# Altium schematic symbol library Male Header.SchLib: 63 symbols
Pins are listed as number, name and electrical type; pins without a type are passive.

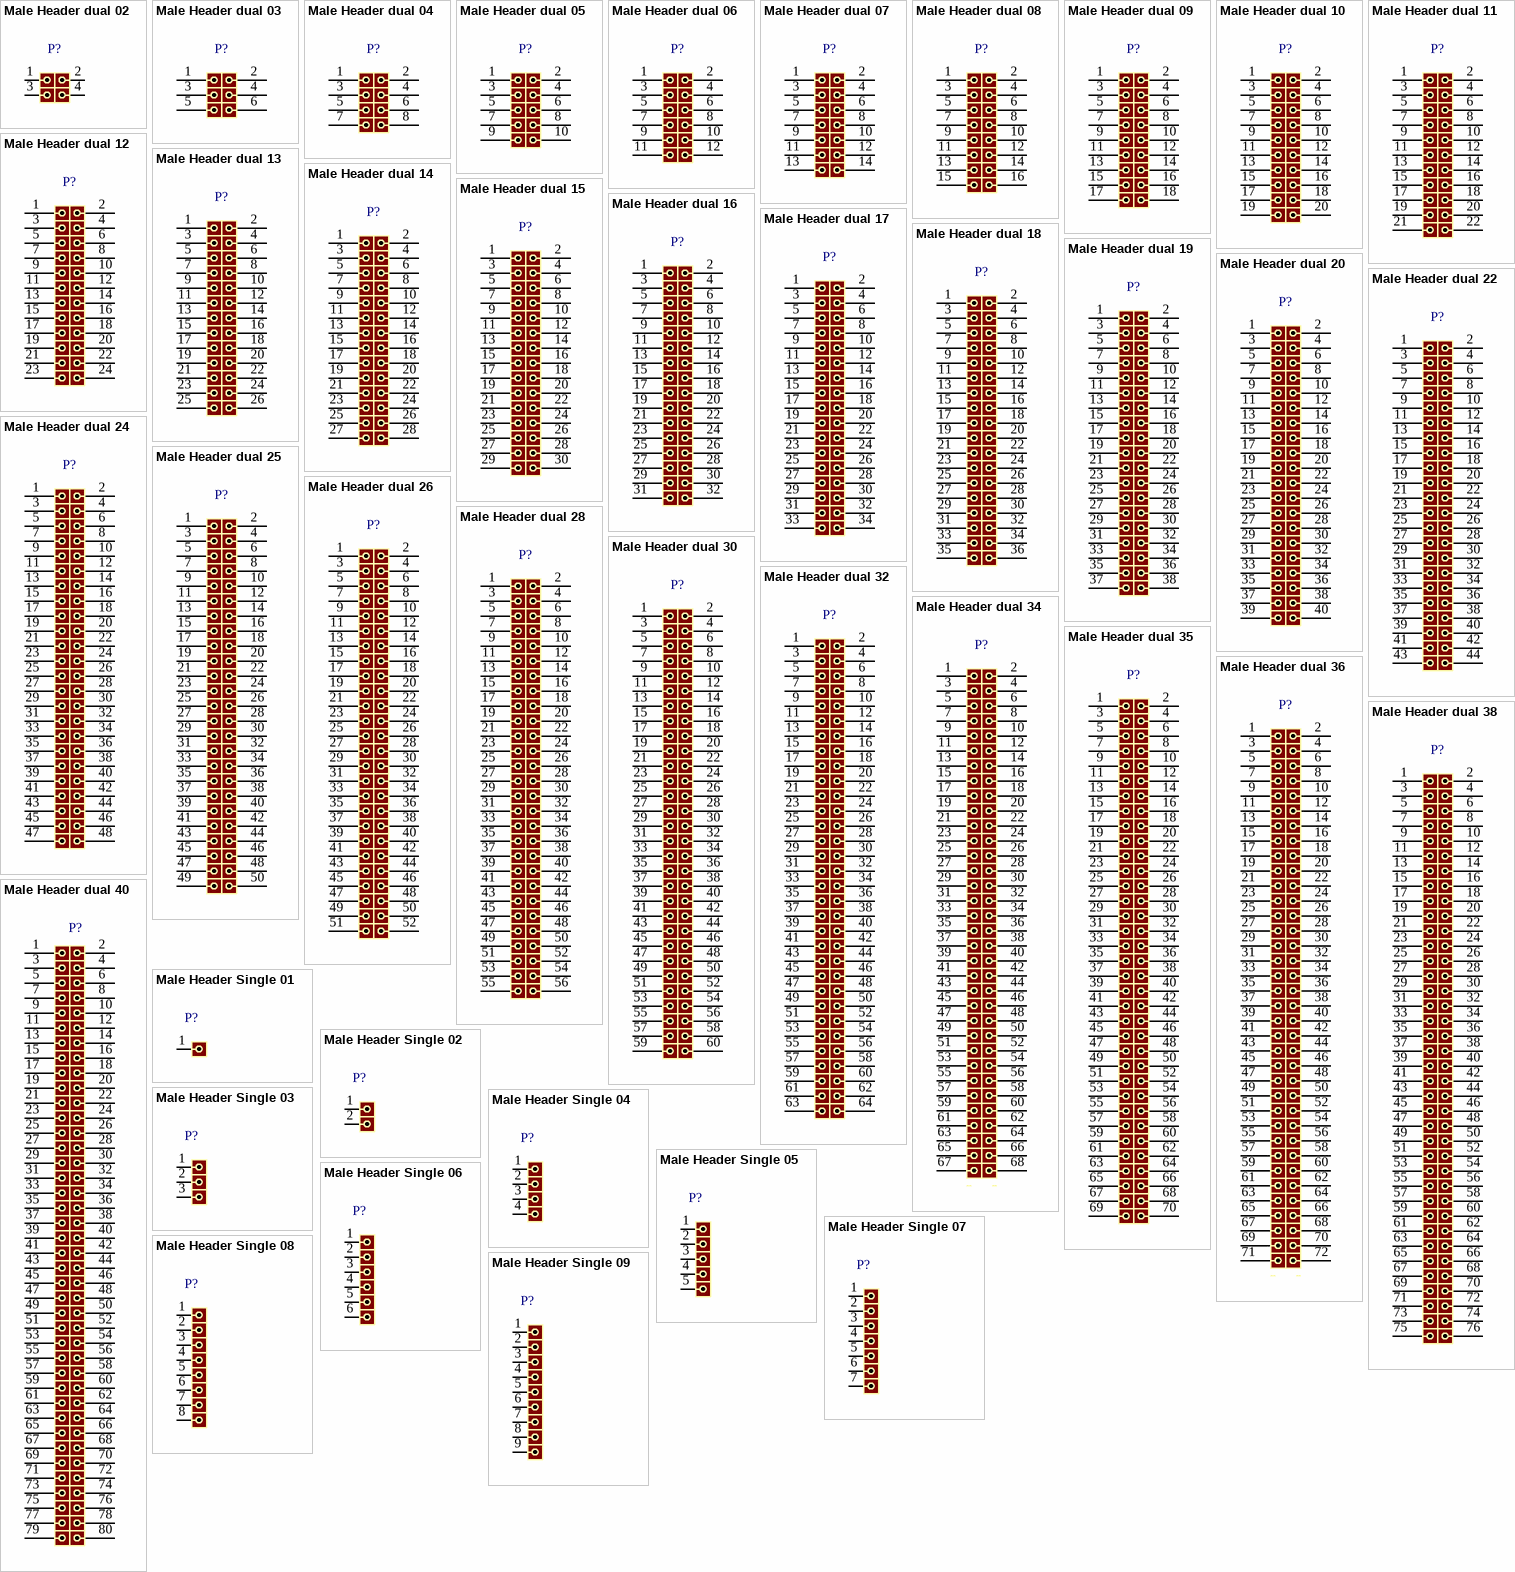
[diagram p0: symbols Male Header dual 02 to Male Header Single 09]

## Male Header dual 02
designator P?
Male, pitch: 2.54mm; DatasheetVersion: 2022
pins: 1, 2, 3, 4
1 alternate drawing of the same symbol

## Male Header dual 03
designator P?
Male, pitch: 2.54mm; DatasheetVersion: 2022
pins: 1, 2, 3, 4, 5, 6
1 alternate drawing of the same symbol

## Male Header dual 04
designator P?
Male, pitch: 2.54mm; DatasheetVersion: 2022
pins: 1, 2, 3, 4, 5, 6, 7, 8
1 alternate drawing of the same symbol

## Male Header dual 05
designator P?
Male, pitch: 2.54mm; DatasheetVersion: 2022
pins: 1, 2, 3, 4, 5, 6, 7, 8, 9, 10
1 alternate drawing of the same symbol

## Male Header dual 06
designator P?
Male, pitch: 2.54mm; DatasheetVersion: 2022
pins: 1, 2, 3, 4, 5, 6, 7, 8, 9, 10, 11, 12
1 alternate drawing of the same symbol

## Male Header dual 07
designator P?
Male, pitch: 2.54mm; DatasheetVersion: 2022
pins: 1, 2, 3, 4, 5, 6, 7, 8, 9, 10, 11, 12, 13, 14
1 alternate drawing of the same symbol

## Male Header dual 08
designator P?
Male, pitch: 2.54mm; DatasheetVersion: 2022
pins: 1, 2, 3, 4, 5, 6, 7, 8, 9, 10, 11, 12, 13, 14, 15, 16
1 alternate drawing of the same symbol

## Male Header dual 09
designator P?
Male, pitch: 2.54mm; DatasheetVersion: 2022
pins: 1, 2, 3, 4, 5, 6, 7, 8, 9, 10, 11, 12, 13, 14, 15, 16, 17, 18
1 alternate drawing of the same symbol

## Male Header dual 10
designator P?
Male, pitch: 2.54mm; DatasheetVersion: 2022
pins: 1, 2, 3, 4, 5, 6, 7, 8, 9, 10, 11, 12, 13, 14, 15, 16, 17, 18, 19, 20
1 alternate drawing of the same symbol

## Male Header dual 11
designator P?
Male, pitch: 2.54mm; DatasheetVersion: 2022
pins: 1, 2, 3, 4, 5, 6, 7, 8, 9, 10, 11, 12, 13, 14, 15, 16, 17, 18, 19, 20, 21, 22
1 alternate drawing of the same symbol

## Male Header dual 12
designator P?
Male, pitch: 2.54mm; DatasheetVersion: 2022
pins: 1, 2, 3, 4, 5, 6, 7, 8, 9, 10, 11, 12, 13, 14, 15, 16, 17, 18, 19, 20, 21, 22, 23, 24
1 alternate drawing of the same symbol

## Male Header dual 13
designator P?
Male, pitch: 2.54mm; DatasheetVersion: 2022
pins: 1, 2, 3, 4, 5, 6, 7, 8, 9, 10, 11, 12, 13, 14, 15, 16, 17, 18, 19, 20, 21, 22, 23, 24, 25, 26
1 alternate drawing of the same symbol

## Male Header dual 14
designator P?
Male, pitch: 2.54mm; DatasheetVersion: 2022
pins: 1, 2, 3, 4, 5, 6, 7, 8, 9, 10, 11, 12, 13, 14, 15, 16, 17, 18, 19, 20, 21, 22, 23, 24, 25, 26, 27, 28
1 alternate drawing of the same symbol

## Male Header dual 15
designator P?
Male, pitch: 2.54mm; DatasheetVersion: 2022
pins: 1, 2, 3, 4, 5, 6, 7, 8, 9, 10, 11, 12, 13, 14, 15, 16, 17, 18, 19, 20, 21, 22, 23, 24, 25, 26, 27, 28, 29, 30
1 alternate drawing of the same symbol

## Male Header dual 16
designator P?
Male, pitch: 2.54mm; DatasheetVersion: 2022
pins: 1, 2, 3, 4, 5, 6, 7, 8, 9, 10, 11, 12, 13, 14, 15, 16, 17, 18, 19, 20, 21, 22, 23, 24, 25, 26, 27, 28, 29, 30, 31, 32
1 alternate drawing of the same symbol

## Male Header dual 17
designator P?
Male, pitch: 2.54mm; DatasheetVersion: 2022
pins: 1, 2, 3, 4, 5, 6, 7, 8, 9, 10, 11, 12, 13, 14, 15, 16, 17, 18, 19, 20, 21, 22, 23, 24, 25, 26, 27, 28, 29, 30, 31, 32, 33, 34
1 alternate drawing of the same symbol

## Male Header dual 18
designator P?
Male, pitch: 2.54mm; DatasheetVersion: 2022
pins: 1, 2, 3, 4, 5, 6, 7, 8, 9, 10, 11, 12, 13, 14, 15, 16, 17, 18, 19, 20, 21, 22, 23, 24, 25, 26, 27, 28, 29, 30, 31, 32, 33, 34, 35, 36
1 alternate drawing of the same symbol

## Male Header dual 19
designator P?
Male, pitch: 2.54mm; DatasheetVersion: 2022
pins: 1, 2, 3, 4, 5, 6, 7, 8, 9, 10, 11, 12, 13, 14, 15, 16, 17, 18, 19, 20, 21, 22, 23, 24, 25, 26, 27, 28, 29, 30, 31, 32, 33, 34, 35, 36, 37, 38
1 alternate drawing of the same symbol

## Male Header dual 20
designator P?
Male, pitch: 2.54mm; DatasheetVersion: 2022
pins: 1, 2, 3, 4, 5, 6, 7, 8, 9, 10, 11, 12, 13, 14, 15, 16, 17, 18, 19, 20, 21, 22, 23, 24, 25, 26, 27, 28, 29, 30, 31, 32, 33, 34, 35, 36, 37, 38, 39, 40
1 alternate drawing of the same symbol

## Male Header dual 22
designator P?
Male, pitch: 2.54mm; DatasheetVersion: 2022
pins: 1, 2, 3, 4, 5, 6, 7, 8, 9, 10, 11, 12, 13, 14, 15, 16, 17, 18, 19, 20, 21, 22, 23, 24, 25, 26, 27, 28, 29, 30, 31, 32, 33, 34, 35, 36, 37, 38, 39, 40, 41, 42, 43, 44
1 alternate drawing of the same symbol

## Male Header dual 24
designator P?
Male, pitch: 2.54mm; DatasheetVersion: 2022
pins: 1, 2, 3, 4, 5, 6, 7, 8, 9, 10, 11, 12, 13, 14, 15, 16, 17, 18, 19, 20, 21, 22, 23, 24, 25, 26, 27, 28, 29, 30, 31, 32, 33, 34, 35, 36, 37, 38, 39, 40, 41, 42, 43, 44, 45, 46, 47, 48
1 alternate drawing of the same symbol

## Male Header dual 25
designator P?
Male, pitch: 2.54mm; DatasheetVersion: 2022
pins: 1, 2, 3, 4, 5, 6, 7, 8, 9, 10, 11, 12, 13, 14, 15, 16, 17, 18, 19, 20, 21, 22, 23, 24, 25, 26, 27, 28, 29, 30, 31, 32, 33, 34, 35, 36, 37, 38, 39, 40, 41, 42, 43, 44, 45, 46, 47, 48, 49, 50
1 alternate drawing of the same symbol

## Male Header dual 26
designator P?
Male, pitch: 2.54mm; DatasheetVersion: 2022
pins: 1, 2, 3, 4, 5, 6, 7, 8, 9, 10, 11, 12, 13, 14, 15, 16, 17, 18, 19, 20, 21, 22, 23, 24, 25, 26, 27, 28, 29, 30, 31, 32, 33, 34, 35, 36, 37, 38, 39, 40, 41, 42, 43, 44, 45, 46, 47, 48, 49, 50, 51, 52
1 alternate drawing of the same symbol

## Male Header dual 28
designator P?
Male, pitch: 2.54mm; DatasheetVersion: 2022
pins: 1, 2, 3, 4, 5, 6, 7, 8, 9, 10, 11, 12, 13, 14, 15, 16, 17, 18, 19, 20, 21, 22, 23, 24, 25, 26, 27, 28, 29, 30, 31, 32, 33, 34, 35, 36, 37, 38, 39, 40, 41, 42, 43, 44, 45, 46, 47, 48, 49, 50, 51, 52, 53, 54, 55, 56
1 alternate drawing of the same symbol

## Male Header dual 30
designator P?
Male, pitch: 2.54mm; DatasheetVersion: 2022
pins: 1, 2, 3, 4, 5, 6, 7, 8, 9, 10, 11, 12, 13, 14, 15, 16, 17, 18, 19, 20, 21, 22, 23, 24, 25, 26, 27, 28, 29, 30, 31, 32, 33, 34, 35, 36, 37, 38, 39, 40, 41, 42, 43, 44, 45, 46, 47, 48, 49, 50, 51, 52, 53, 54, 55, 56, 57, 58, 59, 60
1 alternate drawing of the same symbol

## Male Header dual 32
designator P?
Male, pitch: 2.54mm; DatasheetVersion: 2022
pins: 1, 2, 3, 4, 5, 6, 7, 8, 9, 10, 11, 12, 13, 14, 15, 16, 17, 18, 19, 20, 21, 22, 23, 24, 25, 26, 27, 28, 29, 30, 31, 32, 33, 34, 35, 36, 37, 38, 39, 40, 41, 42, 43, 44, 45, 46, 47, 48, 49, 50, 51, 52, 53, 54, 55, 56, 57, 58, 59, 60, 61, 62, 63, 64
1 alternate drawing of the same symbol

## Male Header dual 34
designator P?
Male, pitch: 2.54mm; DatasheetVersion: 2022
pins: 1, 2, 3, 4, 5, 6, 7, 8, 9, 10, 11, 12, 13, 14, 15, 16, 17, 18, 19, 20, 21, 22, 23, 24, 25, 26, 27, 28, 29, 30, 31, 32, 33, 34, 35, 36, 37, 38, 39, 40, 41, 42, 43, 44, 45, 46, 47, 48, 49, 50, 51, 52, 53, 54, 55, 56, 57, 58, 59, 60, 61, 62, 63, 64, 65, 66, 67, 68
1 alternate drawing of the same symbol

## Male Header dual 35
designator P?
Male, pitch: 2.54mm; DatasheetVersion: 2022
pins: 1, 2, 3, 4, 5, 6, 7, 8, 9, 10, 11, 12, 13, 14, 15, 16, 17, 18, 19, 20, 21, 22, 23, 24, 25, 26, 27, 28, 29, 30, 31, 32, 33, 34, 35, 36, 37, 38, 39, 40, 41, 42, 43, 44, 45, 46, 47, 48, 49, 50, 51, 52, 53, 54, 55, 56, 57, 58, 59, 60, 61, 62, 63, 64, 65, 66, 67, 68, 69, 70
1 alternate drawing of the same symbol

## Male Header dual 36
designator P?
Male, pitch: 2.54mm; DatasheetVersion: 2022
pins: 1, 2, 3, 4, 5, 6, 7, 8, 9, 10, 11, 12, 13, 14, 15, 16, 17, 18, 19, 20, 21, 22, 23, 24, 25, 26, 27, 28, 29, 30, 31, 32, 33, 34, 35, 36, 37, 38, 39, 40, 41, 42, 43, 44, 45, 46, 47, 48, 49, 50, 51, 52, 53, 54, 55, 56, 57, 58, 59, 60, 61, 62, 63, 64, 65, 66, 67, 68, 69, 70, 71, 72
1 alternate drawing of the same symbol

## Male Header dual 38
designator P?
Male, pitch: 2.54mm; DatasheetVersion: 2022
pins: 1, 2, 3, 4, 5, 6, 7, 8, 9, 10, 11, 12, 13, 14, 15, 16, 17, 18, 19, 20, 21, 22, 23, 24, 25, 26, 27, 28, 29, 30, 31, 32, 33, 34, 35, 36, 37, 38, 39, 40, 41, 42, 43, 44, 45, 46, 47, 48, 49, 50, 51, 52, 53, 54, 55, 56, 57, 58, 59, 60, 61, 62, 63, 64, 65, 66, 67, 68, 69, 70, 71, 72, 73, 74, 75, 76
1 alternate drawing of the same symbol

## Male Header dual 40
designator P?
Male, pitch: 2.54mm; DatasheetVersion: 2022
pins: 1, 2, 3, 4, 5, 6, 7, 8, 9, 10, 11, 12, 13, 14, 15, 16, 17, 18, 19, 20, 21, 22, 23, 24, 25, 26, 27, 28, 29, 30, 31, 32, 33, 34, 35, 36, 37, 38, 39, 40, 41, 42, 43, 44, 45, 46, 47, 48, 49, 50, 51, 52, 53, 54, 55, 56, 57, 58, 59, 60, 61, 62, 63, 64, 65, 66, 67, 68, 69, 70, 71, 72, 73, 74, 75, 76, 77, 78, 79, 80
1 alternate drawing of the same symbol

## Male Header Single 01
designator P?
Male, pitch: 2.54mm; DatasheetVersion: 2022
pins: 1
1 alternate drawing of the same symbol

## Male Header Single 02
designator P?
Male, pitch: 2.54mm; DatasheetVersion: 2022
pins: 1, 2
1 alternate drawing of the same symbol

## Male Header Single 03
designator P?
Male, pitch: 2.54mm; DatasheetVersion: 2022
pins: 1, 2, 3
1 alternate drawing of the same symbol

## Male Header Single 04
designator P?
Male, pitch: 2.54mm; DatasheetVersion: 2022
pins: 1, 2, 3, 4
1 alternate drawing of the same symbol

## Male Header Single 05
designator P?
Male, pitch: 2.54mm; DatasheetVersion: 2022
pins: 1, 2, 3, 4, 5
1 alternate drawing of the same symbol

## Male Header Single 06
designator P?
Male, pitch: 2.54mm; DatasheetVersion: 2022
pins: 1, 2, 3, 4, 5, 6
1 alternate drawing of the same symbol

## Male Header Single 07
designator P?
Male, pitch: 2.54mm; DatasheetVersion: 2022
pins: 1, 2, 3, 4, 5, 6, 7
1 alternate drawing of the same symbol

## Male Header Single 08
designator P?
Male, pitch: 2.54mm; DatasheetVersion: 2022
pins: 1, 2, 3, 4, 5, 6, 7, 8
1 alternate drawing of the same symbol

## Male Header Single 09
designator P?
Male, pitch: 2.54mm; DatasheetVersion: 2022
pins: 1, 2, 3, 4, 5, 6, 7, 8, 9
1 alternate drawing of the same symbol

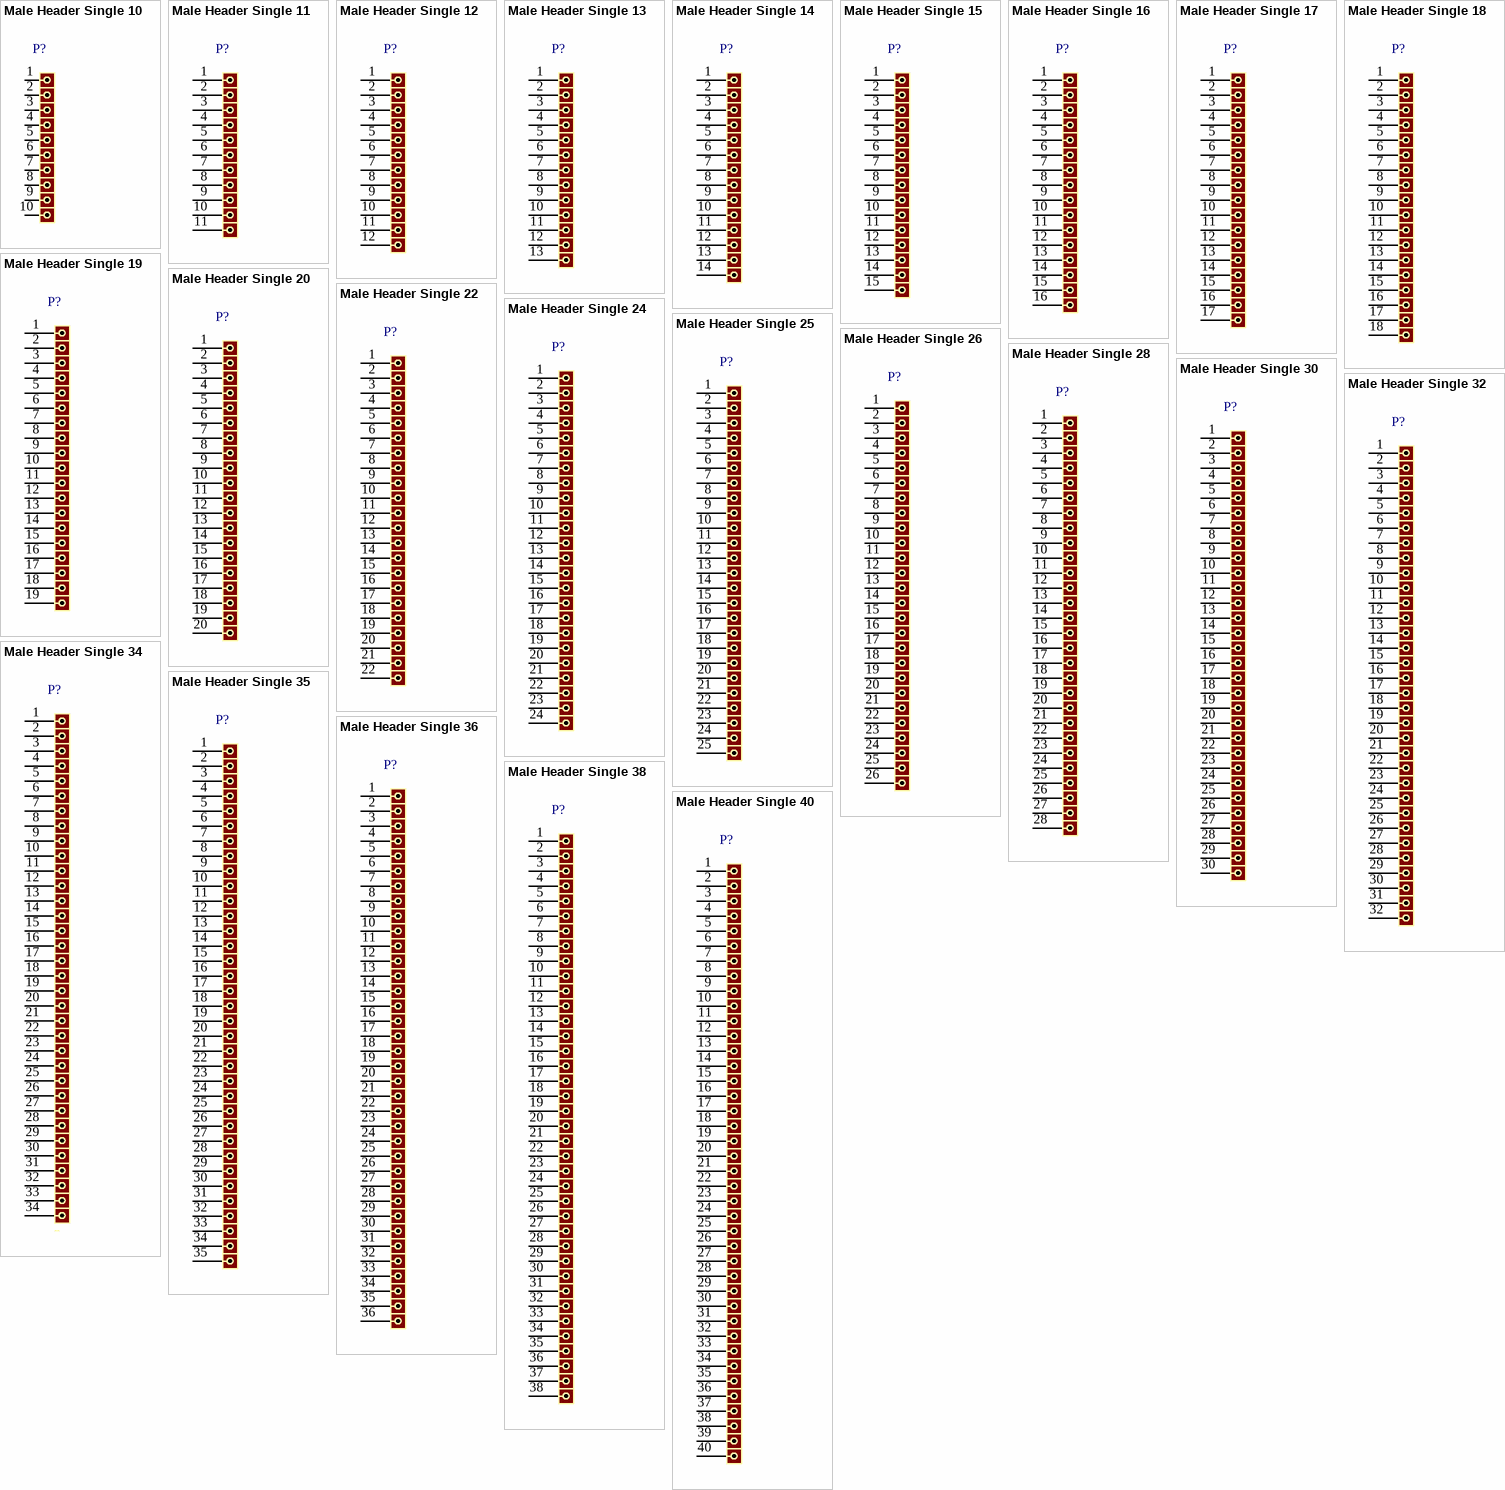
[diagram p1: symbols Male Header Single 10 to Male Header Single 40]

## Male Header Single 10
designator P?
Male, pitch: 2.54mm; DatasheetVersion: 2022
pins: 1, 2, 3, 4, 5, 6, 7, 8, 9, 10
1 alternate drawing of the same symbol

## Male Header Single 11
designator P?
Male, pitch: 2.54mm; DatasheetVersion: 2022
pins: 1, 2, 3, 4, 5, 6, 7, 8, 9, 10, 11
1 alternate drawing of the same symbol

## Male Header Single 12
designator P?
Male, pitch: 2.54mm; DatasheetVersion: 2022
pins: 1, 2, 3, 4, 5, 6, 7, 8, 9, 10, 11, 12
1 alternate drawing of the same symbol

## Male Header Single 13
designator P?
Male, pitch: 2.54mm; DatasheetVersion: 2022
pins: 1, 2, 3, 4, 5, 6, 7, 8, 9, 10, 11, 12, 13
1 alternate drawing of the same symbol

## Male Header Single 14
designator P?
Male, pitch: 2.54mm; DatasheetVersion: 2022
pins: 1, 2, 3, 4, 5, 6, 7, 8, 9, 10, 11, 12, 13, 14
1 alternate drawing of the same symbol

## Male Header Single 15
designator P?
Male, pitch: 2.54mm; DatasheetVersion: 2022
pins: 1, 2, 3, 4, 5, 6, 7, 8, 9, 10, 11, 12, 13, 14, 15
1 alternate drawing of the same symbol

## Male Header Single 16
designator P?
Male, pitch: 2.54mm; DatasheetVersion: 2022
pins: 1, 2, 3, 4, 5, 6, 7, 8, 9, 10, 11, 12, 13, 14, 15, 16
1 alternate drawing of the same symbol

## Male Header Single 17
designator P?
Male, pitch: 2.54mm; DatasheetVersion: 2022
pins: 1, 2, 3, 4, 5, 6, 7, 8, 9, 10, 11, 12, 13, 14, 15, 16, 17
1 alternate drawing of the same symbol

## Male Header Single 18
designator P?
Male, pitch: 2.54mm; DatasheetVersion: 2022
pins: 1, 2, 3, 4, 5, 6, 7, 8, 9, 10, 11, 12, 13, 14, 15, 16, 17, 18
1 alternate drawing of the same symbol

## Male Header Single 19
designator P?
Male, pitch: 2.54mm; DatasheetVersion: 2022
pins: 1, 2, 3, 4, 5, 6, 7, 8, 9, 10, 11, 12, 13, 14, 15, 16, 17, 18, 19
1 alternate drawing of the same symbol

## Male Header Single 20
designator P?
Male, pitch: 2.54mm; DatasheetVersion: 2022
pins: 1, 2, 3, 4, 5, 6, 7, 8, 9, 10, 11, 12, 13, 14, 15, 16, 17, 18, 19, 20
1 alternate drawing of the same symbol

## Male Header Single 22
designator P?
Male, pitch: 2.54mm; DatasheetVersion: 2022
pins: 1, 2, 3, 4, 5, 6, 7, 8, 9, 10, 11, 12, 13, 14, 15, 16, 17, 18, 19, 20, 21, 22
1 alternate drawing of the same symbol

## Male Header Single 24
designator P?
Male, pitch: 2.54mm; DatasheetVersion: 2022
pins: 1, 2, 3, 4, 5, 6, 7, 8, 9, 10, 11, 12, 13, 14, 15, 16, 17, 18, 19, 20, 21, 22, 23, 24
1 alternate drawing of the same symbol

## Male Header Single 25
designator P?
Male, pitch: 2.54mm; DatasheetVersion: 2022
pins: 1, 2, 3, 4, 5, 6, 7, 8, 9, 10, 11, 12, 13, 14, 15, 16, 17, 18, 19, 20, 21, 22, 23, 24, 25
1 alternate drawing of the same symbol

## Male Header Single 26
designator P?
Male, pitch: 2.54mm; DatasheetVersion: 2022
pins: 1, 2, 3, 4, 5, 6, 7, 8, 9, 10, 11, 12, 13, 14, 15, 16, 17, 18, 19, 20, 21, 22, 23, 24, 25, 26
1 alternate drawing of the same symbol

## Male Header Single 28
designator P?
Male, pitch: 2.54mm; DatasheetVersion: 2022
pins: 1, 2, 3, 4, 5, 6, 7, 8, 9, 10, 11, 12, 13, 14, 15, 16, 17, 18, 19, 20, 21, 22, 23, 24, 25, 26, 27, 28
1 alternate drawing of the same symbol

## Male Header Single 30
designator P?
Male, pitch: 2.54mm; DatasheetVersion: 2022
pins: 1, 2, 3, 4, 5, 6, 7, 8, 9, 10, 11, 12, 13, 14, 15, 16, 17, 18, 19, 20, 21, 22, 23, 24, 25, 26, 27, 28, 29, 30
1 alternate drawing of the same symbol

## Male Header Single 32
designator P?
Male, pitch: 2.54mm; DatasheetVersion: 2022
pins: 1, 2, 3, 4, 5, 6, 7, 8, 9, 10, 11, 12, 13, 14, 15, 16, 17, 18, 19, 20, 21, 22, 23, 24, 25, 26, 27, 28, 29, 30, 31, 32
1 alternate drawing of the same symbol

## Male Header Single 34
designator P?
Male, pitch: 2.54mm; DatasheetVersion: 2022
pins: 1, 2, 3, 4, 5, 6, 7, 8, 9, 10, 11, 12, 13, 14, 15, 16, 17, 18, 19, 20, 21, 22, 23, 24, 25, 26, 27, 28, 29, 30, 31, 32, 33, 34
1 alternate drawing of the same symbol

## Male Header Single 35
designator P?
Male, pitch: 2.54mm; DatasheetVersion: 2022
pins: 1, 2, 3, 4, 5, 6, 7, 8, 9, 10, 11, 12, 13, 14, 15, 16, 17, 18, 19, 20, 21, 22, 23, 24, 25, 26, 27, 28, 29, 30, 31, 32, 33, 34, 35
1 alternate drawing of the same symbol

## Male Header Single 36
designator P?
Male, pitch: 2.54mm; DatasheetVersion: 2022
pins: 1, 2, 3, 4, 5, 6, 7, 8, 9, 10, 11, 12, 13, 14, 15, 16, 17, 18, 19, 20, 21, 22, 23, 24, 25, 26, 27, 28, 29, 30, 31, 32, 33, 34, 35, 36
1 alternate drawing of the same symbol

## Male Header Single 38
designator P?
Male, pitch: 2.54mm; DatasheetVersion: 2022
pins: 1, 2, 3, 4, 5, 6, 7, 8, 9, 10, 11, 12, 13, 14, 15, 16, 17, 18, 19, 20, 21, 22, 23, 24, 25, 26, 27, 28, 29, 30, 31, 32, 33, 34, 35, 36, 37, 38
1 alternate drawing of the same symbol

## Male Header Single 40
designator P?
Male, pitch: 2.54mm; DatasheetVersion: 2022
pins: 1, 2, 3, 4, 5, 6, 7, 8, 9, 10, 11, 12, 13, 14, 15, 16, 17, 18, 19, 20, 21, 22, 23, 24, 25, 26, 27, 28, 29, 30, 31, 32, 33, 34, 35, 36, 37, 38, 39, 40
1 alternate drawing of the same symbol